# EAGLE library part OP1177ARZ (library amplifiers)
Precision Low Noise, Low Input Bias Current Operational Amplifiers
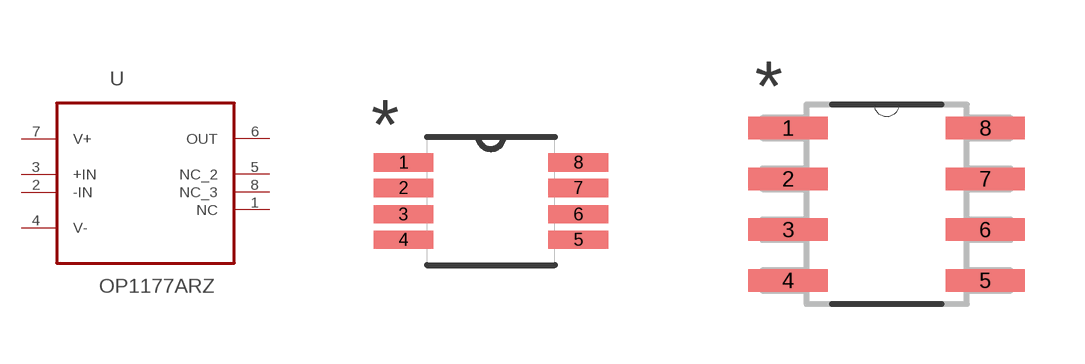
[diagram p2: symbol with the pads of SOP65P490X110-8N; footprints SOP65P490X110-8N, SOIC127P600X175-8N]

Designator prefix U

## OP1177ARZ (MPN: OP1177ARZ; OC_FARNELL: 2074880; OC_NEWARK: 19M1025; PACKAGE: MSOP-8; SUPPLIER: Analog Devices)  [SOP65P490X110-8N]
1  NC  nc
2  -IN  in
3  +IN  in
4  V-  pwr
5  NC_2  nc
6  OUT  out
7  V+  pwr
8  NC_3  nc

## OP1177ARZSOIC8 (OC_FARNELL: 8621594; PACKAGE: SOIC, 8)  [SOIC127P600X175-8N]
Pads as for SOP65P490X110-8N

## Footprint SOP65P490X110-8N (pad centres in mm)
smd 1.499 x 0.457: 1 -2.184,0.965; 2 -2.184,0.33; 3 -2.184,-0.33; 4 -2.184,-0.965; 5 2.184,-0.965; 6 2.184,-0.33; 7 2.184,0.33; 8 2.184,0.965

## Footprint SOIC127P600X175-8N (pad centres in mm)
smd 1.981 x 0.559: 1 -2.464,1.905; 2 -2.464,0.635; 3 -2.464,-0.635; 4 -2.464,-1.905; 5 2.464,-1.905; 6 2.464,-0.635; 7 2.464,0.635; 8 2.464,1.905